# Altium schematic symbol library Capacitors_Aluminium.SchLib: 1 symbol
Pins are listed as number, name and electrical type; pins without a type are passive.

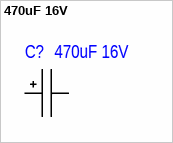
[diagram p0: symbol 470uF 16V]

## 470uF 16V
designator C?
8 x 11.5mm; Part Number: UKW1C471MPD; Manufacturer: Nichicon; Note: 8 x 11.5mm; Value: 470uF 16V
footprint D8H11.5C3.5
pins: 1 (power), 2 (power)